# EAGLE library part RASPBERRY-PI (library RaspberryPi)
Raspberry Pi Board <http://www.raspberrypi.org/> Jacques Lagnel V1.0 (beta) 2012 Board dimension: Forum 3D model <http://www.raspberrypi.org/forum/general-discussion/mechanical-profile-3d-models?value=3d%20model&type=1&include=1&search=1&ret=all> The GPIO Connector (P1): http://elinux.org/RPi_Low-level_peripherals
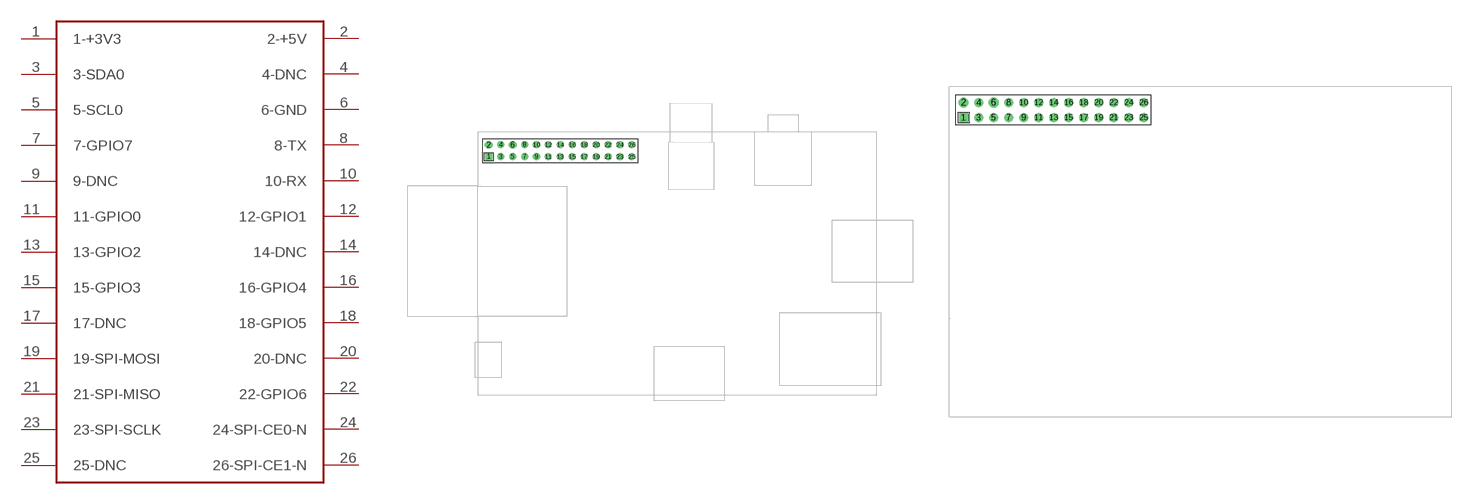
[diagram p0: symbol with the pads of RASPBERRY-PI; footprints RASPBERRY-PI, RASPBERRY-PI-LIGHT]

Designator prefix -

## RASPBERRY-PI  [RASPBERRY-PI]
1  1-+3V3
2  2-+5V
3  3-SDA0
4  4-DNC
5  5-SCL0
6  6-GND
7  7-GPIO7
8  8-TX
9  9-DNC
10  10-RX
11  11-GPIO0
12  12-GPIO1
13  13-GPIO2
14  14-DNC
15  15-GPIO3
16  16-GPIO4
17  17-DNC
18  18-GPIO5
19  19-SPI-MOSI
20  20-DNC
21  21-SPI-MISO
22  22-GPIO6
23  23-SPI-SCLK
24  24-SPI-CE0-N
25  25-DNC
26  26-SPI-CE1-N

## RASPBERRY-PILIGHT  [RASPBERRY-PI-LIGHT]
Pads as for RASPBERRY-PI

## RASPBERRY-PILIGHT-HOLE  [RASPBERRY-PI-LIGHT-HOLE]
Pads as for RASPBERRY-PI

## Footprint RASPBERRY-PI (pad centres in mm)
drill 1 square: 1 0,0
drill 1 pad 1.676: 2 0,2.54; 6 5.08,2.54
drill 1: 3 2.54,0; 4 2.54,2.54; 5 5.08,0; 7 7.62,0; 8 7.62,2.54; 9 10.16,0; 10 10.16,2.54; 11 12.7,0; 12 12.7,2.54; 13 15.24,0; 14 15.24,2.54; 15 17.78,0; 16 17.78,2.54; 17 20.32,0; 18 20.32,2.54; 19 22.86,0; 20 22.86,2.54; 21 25.4,0; 22 25.4,2.54; 23 27.94,0; 24 27.94,2.54; 25 30.48,0; 26 30.48,2.54

## Footprint RASPBERRY-PI-LIGHT (pad centres in mm)
drill 1 square: 1 -34.29,21.59
drill 1 pad 1.676: 2 -34.29,24.13; 6 -29.21,24.13
drill 1: 3 -31.75,21.59; 4 -31.75,24.13; 5 -29.21,21.59; 7 -26.67,21.59; 8 -26.67,24.13; 9 -24.13,21.59; 10 -24.13,24.13; 11 -21.59,21.59; 12 -21.59,24.13; 13 -19.05,21.59; 14 -19.05,24.13; 15 -16.51,21.59; 16 -16.51,24.13; 17 -13.97,21.59; 18 -13.97,24.13; 19 -11.43,21.59; 20 -11.43,24.13; 21 -8.89,21.59; 22 -8.89,24.13; 23 -6.35,21.59; 24 -6.35,24.13; 25 -3.81,21.59; 26 -3.81,24.13

## Footprint RASPBERRY-PI-LIGHT-HOLE (pad centres in mm)
drill 1 square: 1 -39.37,22.86
drill 1 pad 1.676: 2 -39.37,25.4; 6 -34.29,25.4
drill 1: 3 -36.83,22.86; 4 -36.83,25.4; 5 -34.29,22.86; 7 -31.75,22.86; 8 -31.75,25.4; 9 -29.21,22.86; 10 -29.21,25.4; 11 -26.67,22.86; 12 -26.67,25.4; 13 -24.13,22.86; 14 -24.13,25.4; 15 -21.59,22.86; 16 -21.59,25.4; 17 -19.05,22.86; 18 -19.05,25.4; 19 -16.51,22.86; 20 -16.51,25.4; 21 -13.97,22.86; 22 -13.97,25.4; 23 -11.43,22.86; 24 -11.43,25.4; 25 -8.89,22.86; 26 -8.89,25.4
hole 3 at -16.351,-9.842
hole 3 at 38.417,15.557